# EAGLE library part 1818025 (library 1818025)
MCV 1,5/ 5-GF-3,5-LR - PCB headers, nominal cross section: 1.5 mm2, color: green, nominal current: 8 A, rated voltage (III/2): 160 V, contact surface: Sn, contact connection type: Pin, number of potentials: 5, number of rows: 1, number of positions: 5, number of connections: 5, product range: MCV 1,5/..-GF-LR, pitch: 3.5 mm, mounting: Wave soldering, pin layout: Linear pinning, solder pin [P]: 3.4 mm, number of solder pins per potential: 1, plug-in system: COMBICON MC 1,5, Pin connector pattern a Source: Datasheet <https://www.phoenixcontact.com/en-us/products/pcb-header-mcv-15-5-gf-35-lr-1818025?type=pdf>
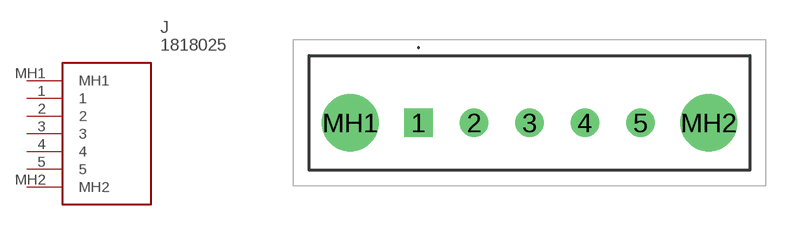
[diagram p0: symbol with the pads of 1818025; footprint 1818025]

Designator prefix J

## 1818025 (Arrow_Part_Number: 1818025; Arrow_Price-Stock: https://www.arrow.com/en/products/1818025/phoenix-contact?region=nac; Description: MCV 1,5/ 5-GF-3,5-LR - PCB headers, nominal cross section: 1.5 mm<sup>2</sup>, color: green, nominal current: 8 A, rated voltage (III/2): 160 V, contact surface: Sn, contact connection type: Pin, number of potentials: 5, number of rows: 1, number of positions: 5, number of connections: 5, product range: MCV 1,5/..-GF-LR, pitch: 3.5 mm, mounting: Wave soldering, pin layout: Linear pinning, solder pin [P]: 3.4 mm, number of solder pins per potential: 1, plug-in system: COMBICON MC 1,5, Pin connector pattern a; Height: 9.35mm; Manufacturer_Name: Phoenix Contact; Manufacturer_Part_Number: 1818025; Mouser_Part_Number: 651-1818025; Mouser_Price-Stock: https://www.mouser.co.uk/ProductDetail/Phoenix-Contact/1818025?qs=2WS7V4AoKFoZk6SygIuG4Q%3D%3D)  [1818025]
1  1
2  2
3  3
4  4
5  5
MH1  MH1
MH2  MH2

## Footprint 1818025 (pad centres in mm)
1818025-1
drill 1.2 pad 1.8 square: 1 0,0
drill 1.2 pad 1.8: 2 3.5,0; 3 7,0; 4 10.5,0; 5 14,0
drill 2.4 pad 3.6: MH1 -4.3,0; MH2 18.3,0